# EAGLE library part 615008185221 (library InputOutputIO (rev19a))
Modular Jack Horizontal Shielded with LED and EMI Panel Finger 8P8C Tab Down WR-MJ KIND PROPERTIES: Quality Class 750 Mating cycles LED (Left-Right) yellow-green MATERIAL PROPERTIES: Insulator Material PBT Insulator Flammability Rating UL94 V-0 Insulator Color Black Contact Material Copper Alloy Contact Plating Selective Gold Contact Type Stamped Shielding Material Brass Shielding Plating Nickel GENERAL PROPERTIES: Operating Temperature -40 °C up to +85 °C Compliance Lead free / RoHS ELECTRICAL PROPERTIES: Rated Current [1] 1.5 A Withstanding Voltage 1000 V (AC) Contact Resistance 30 mΩ Insulation Resistance 1000 MΩ STANDARD: UL Approval E324776 PACKAGING PROPERTIES: Packaging Tray Packaging Unit (Qty.) 70 mm <http://katalog.we-online.de/media/images/v2/Family_WR-MJ_615008185221.jpg> Details see: http://katalog.we-online.de/em/datasheet/615008185221.pdf Created 2017-11-28, Yingchun,Shan 2017(C) Würth Elektronik
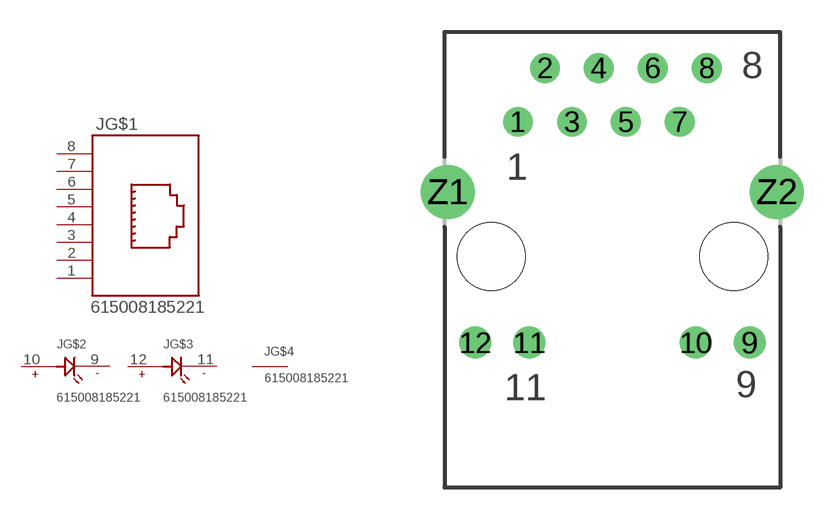
[diagram p176: symbol with the pads of 615008185221; footprint 615008185221]

Designator prefix J; gates G$1=4X4-4 G$2=LED G$3=LED G$4=SHIELD

## 615008185221  [615008185221]
1  G$1:1  pas
2  G$1:2  pas
3  G$1:3  pas
4  G$1:4  pas
5  G$1:5  pas
6  G$1:6  pas
7  G$1:7  pas
8  G$1:8  pas
9  G$2:A10  pas
10  G$2:A9  pas
11  G$3:A10  pas
12  G$3:A9  pas
Z1  G$4:SHIELD  pas
Z2  G$4:SHIELD  pas

## Footprint 615008185221 (pad centres in mm)
drill 0.9: 1 -4.445,6.35; 2 -3.175,8.89; 3 -1.905,6.35; 4 -0.635,8.89; 5 0.635,6.35; 6 1.905,8.89; 7 3.175,6.35; 8 4.445,8.89
drill 1: 9 6.465,-4.06; 10 3.925,-4.06; 11 -3.925,-4.06; 12 -6.465,-4.06
drill 1.7: Z1 -7.75,3.05; Z2 7.75,3.05
hole 3.2 at -5.715,0
hole 3.2 at 5.715,0